# EAGLE library part NX-EMMC (library Connectors)
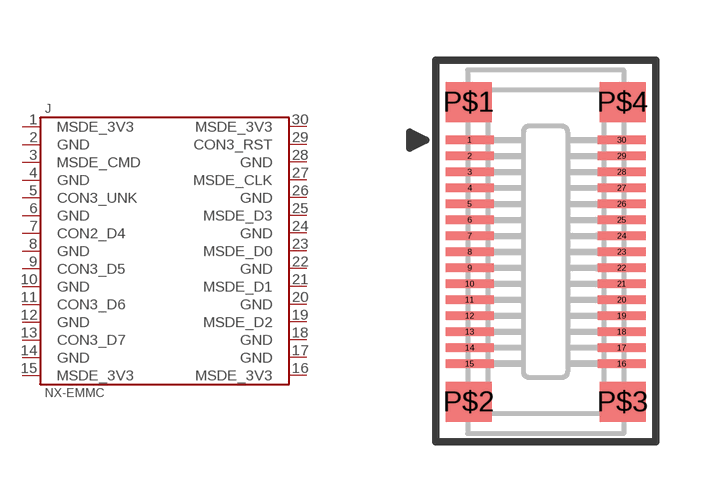
[diagram p32: symbol with the pads of 5009130302; footprint 5009130302]

Designator prefix J

## NX-EMMC  [5009130302]
1  MSDE_3V3
2  GND
3  MSDE_CMD
4  GND
5  CON3_UNK
6  GND
7  CON2_D4
8  GND
9  CON3_D5
10  GND
11  CON3_D6
12  GND
13  CON3_D7
14  GND
15  MSDE_3V3
16  MSDE_3V3
17  GND
18  GND
19  MSDE_D2
20  GND
21  MSDE_D1
22  GND
23  MSDE_D0
24  GND
25  MSDE_D3
26  GND
27  MSDE_CLK
28  GND
29  CON3_RST
30  MSDE_3V3

## Footprint 5009130302 (pad centres in mm)
smd 1.2 x 0.22: 1 -1.9,2.8; 2 -1.9,2.4; 3 -1.9,2; 4 -1.9,1.6; 5 -1.9,1.2; 6 -1.9,0.8; 7 -1.9,0.4; 8 -1.9,0; 9 -1.9,-0.4; 10 -1.9,-0.8; 11 -1.9,-1.2; 12 -1.9,-1.6; 13 -1.9,-2; 14 -1.9,-2.4; 15 -1.9,-2.8; 16 1.9,-2.8; 17 1.9,-2.4; 18 1.9,-2; 19 1.9,-1.6; 20 1.9,-1.2; 21 1.9,-0.8; 22 1.9,-0.4; 23 1.9,0; 24 1.9,0.4; 25 1.9,0.8; 26 1.9,1.2; 27 1.9,1.6; 28 1.9,2; 29 1.9,2.4; 30 1.9,2.8
smd 1.15 x 1: P$1 -1.925,3.75; P$2 -1.925,-3.75; P$3 1.925,-3.75; P$4 1.925,3.75